# Altium footprint library WA-SMSE.PcbLib: 11 footprints
Each footprint in its own frame and in the unit in brackets; x right, y up, seen from the top. Pads: shape width x height; smd on the part's side, far side on the other; paste and mask are expansions set on the pad; w line width, h text height; cw(c..) or ccw(c..) is an arc to the next point about the centre after c.
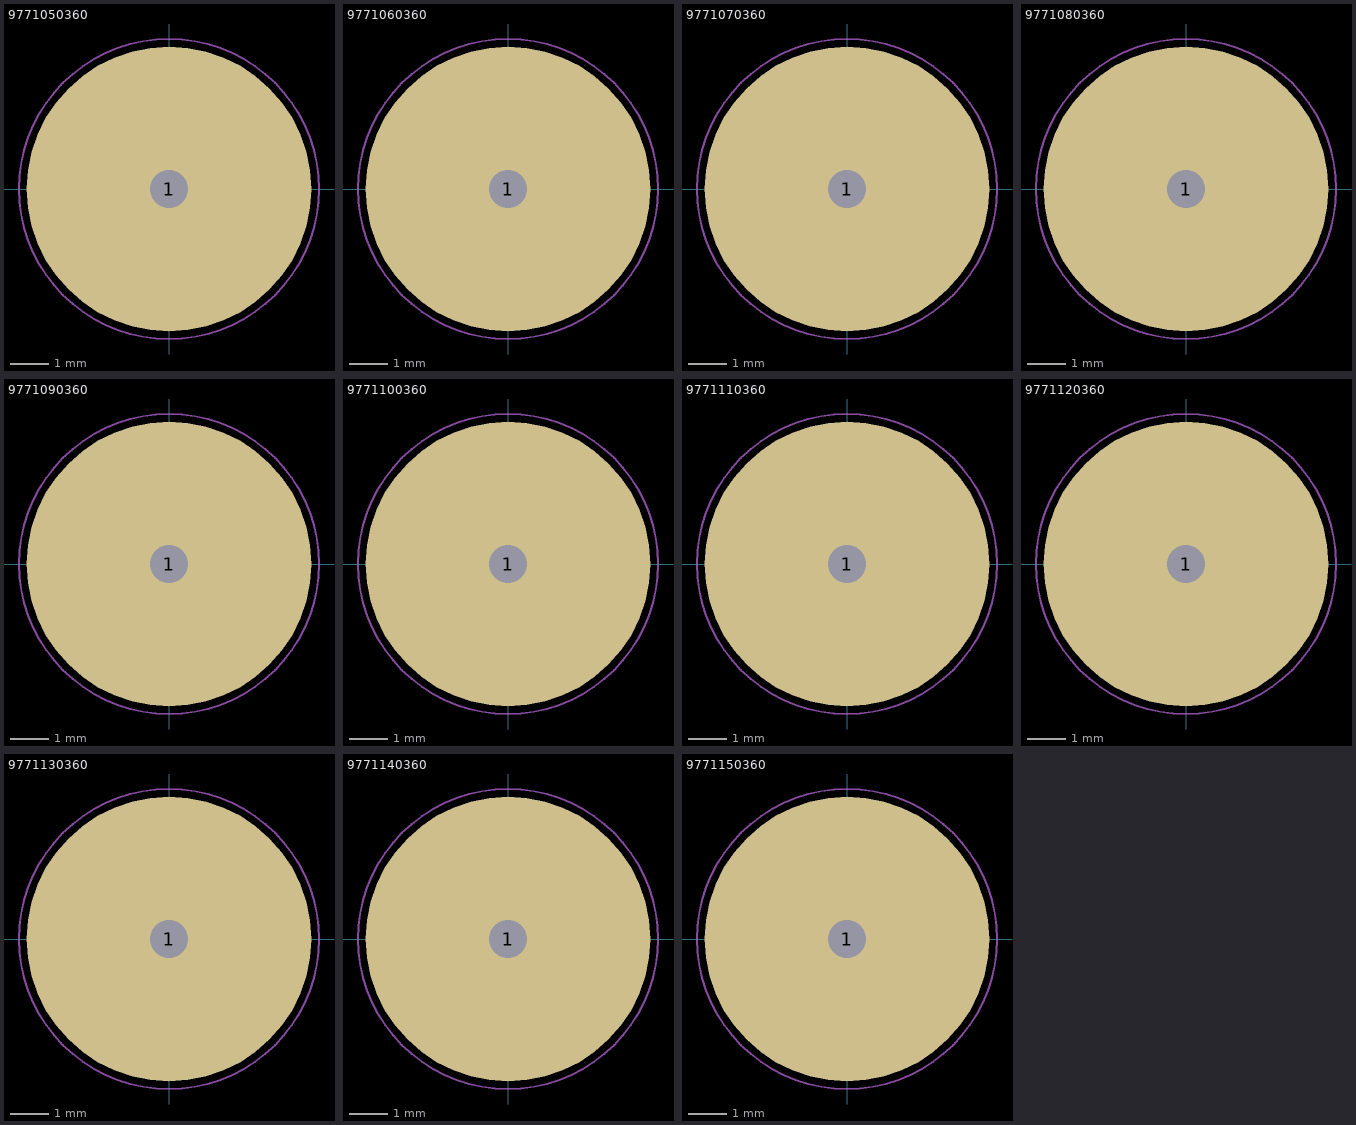
[diagram p0: the footprints below, top view; thin cyan lines are the x and y axes]

## 9771050360 [mm] "SMD Steel Spacer, M3 Thread External, Length 5mm"
height 11
pads (1):
  round 7.4 / inner round 0 / far side round 0 hole 1 unplated paste-403.566: 1(0,0)
Top Paste:
  region: 0.53,-3.561 0.784,-3.523 1.276,-3.376 1.741,-3.161 2.172,-2.882 2.559,-2.545 2.894,-2.156 3.171,-1.724 3.383,-1.257 3.527,-0.765 3.6,-0.257 3.6,0.257 3.527,0.765 3.383,1.257 3.171,1.724 2.894,2.156 2.559,2.545 2.172,2.882 1.741,3.161 1.276,3.376 0.784,3.523 0.53,3.561 0.53,0.377 0.53,0.376 0.581,0.29 0.642,0.1 0.642,-0.1 0.581,-0.29 0.53,-0.376 0.53,-0.377
  region: -0.53,-3.561 -0.784,-3.523 -1.276,-3.376 -1.741,-3.161 -2.172,-2.882 -2.559,-2.545 -2.894,-2.156 -3.171,-1.724 -3.383,-1.257 -3.527,-0.765 -3.6,-0.257 -3.6,0.257 -3.527,0.765 -3.383,1.257 -3.171,1.724 -2.894,2.156 -2.559,2.545 -2.172,2.882 -1.741,3.161 -1.276,3.376 -0.784,3.523 -0.53,3.561 -0.53,0.377 -0.53,0.376 -0.581,0.29 -0.642,0.1 -0.642,-0.1 -0.581,-0.29 -0.53,-0.376 -0.53,-0.377
Top Designator:
  text ".Designator" at -7.498,-0.5 h1.5
Top Component Outline:
  circle w0.1: c0,0 r3
Top 3D Body:
  circle w0.1: c0,0 r3
Top Courtyard:
  circle w0.05: c0,0 r3.9
  lines w0.05: -0.5,0 0.5,0 ; 0,-0.5 0,0.5
3D body "9771050360.stp": height 11, standoff -0.5, extent -3,-3 3,3

## 9771060360 [mm] "SMD Steel Spacer, M3 Thread External, Length 6mm"
height 12
pads (1):
  round 7.4 / inner round 0 / far side round 0 hole 1 unplated paste-403.566: 1(0,0)
Top Paste:
  region: -0.53,-3.561 -0.784,-3.523 -1.276,-3.376 -1.741,-3.161 -2.172,-2.882 -2.559,-2.545 -2.894,-2.156 -3.171,-1.724 -3.383,-1.257 -3.527,-0.765 -3.6,-0.257 -3.6,0.257 -3.527,0.765 -3.383,1.257 -3.171,1.724 -2.894,2.156 -2.559,2.545 -2.172,2.882 -1.741,3.161 -1.276,3.376 -0.784,3.523 -0.53,3.561 -0.53,0.377 -0.53,0.376 -0.581,0.29 -0.642,0.1 -0.642,-0.1 -0.581,-0.29 -0.53,-0.376 -0.53,-0.377
  region: 0.53,-3.561 0.784,-3.523 1.276,-3.376 1.741,-3.161 2.172,-2.882 2.559,-2.545 2.894,-2.156 3.171,-1.724 3.383,-1.257 3.527,-0.765 3.6,-0.257 3.6,0.257 3.527,0.765 3.383,1.257 3.171,1.724 2.894,2.156 2.559,2.545 2.172,2.882 1.741,3.161 1.276,3.376 0.784,3.523 0.53,3.561 0.53,0.377 0.53,0.376 0.581,0.29 0.642,0.1 0.642,-0.1 0.581,-0.29 0.53,-0.376 0.53,-0.377
Top Designator:
  text ".Designator" at -7.498,-0.5 h1.5
Top Component Outline:
  circle w0.1: c0,0 r3
Top 3D Body:
  circle w0.1: c0,0 r3
Top Courtyard:
  circle w0.05: c0,0 r3.9
  lines w0.05: -0.5,0 0.5,0 ; 0,-0.5 0,0.5
3D body "9771060360.stp": height 12, standoff -0.5, extent -3,-3 3,3

## 9771070360 [mm] "SMD Steel Spacer, M3 Thread External, Length 7mm"
height 13
pads (1):
  round 7.4 / inner round 0 / far side round 0 hole 1 unplated paste-403.566: 1(0,0)
Top Paste:
  region: -0.53,-3.561 -0.784,-3.523 -1.276,-3.376 -1.741,-3.161 -2.172,-2.882 -2.559,-2.545 -2.894,-2.156 -3.171,-1.724 -3.383,-1.257 -3.527,-0.765 -3.6,-0.257 -3.6,0.257 -3.527,0.765 -3.383,1.257 -3.171,1.724 -2.894,2.156 -2.559,2.545 -2.172,2.882 -1.741,3.161 -1.276,3.376 -0.784,3.523 -0.53,3.561 -0.53,0.377 -0.53,0.376 -0.581,0.29 -0.642,0.1 -0.642,-0.1 -0.581,-0.29 -0.53,-0.376 -0.53,-0.377
  region: 0.53,-3.561 0.784,-3.523 1.276,-3.376 1.741,-3.161 2.172,-2.882 2.559,-2.545 2.894,-2.156 3.171,-1.724 3.383,-1.257 3.527,-0.765 3.6,-0.257 3.6,0.257 3.527,0.765 3.383,1.257 3.171,1.724 2.894,2.156 2.559,2.545 2.172,2.882 1.741,3.161 1.276,3.376 0.784,3.523 0.53,3.561 0.53,0.377 0.53,0.376 0.581,0.29 0.642,0.1 0.642,-0.1 0.581,-0.29 0.53,-0.376 0.53,-0.377
Top Designator:
  text ".Designator" at -7.498,-0.5 h1.5
Top Component Outline:
  circle w0.1: c0,0 r3
Top 3D Body:
  circle w0.1: c0,0 r3
Top Courtyard:
  circle w0.05: c0,0 r3.9
  lines w0.05: -0.5,0 0.5,0 ; 0,-0.5 0,0.5
3D body "9771070360.stp": height 13, standoff -0.5, extent -3,-3 3,3

## 9771080360 [mm] "SMD Steel Spacer, M3 Thread External, Length 8mm"
height 14
pads (1):
  round 7.4 / inner round 0 / far side round 0 hole 1 unplated paste-403.566: 1(0,0)
Top Paste:
  region: 0.53,-3.561 0.784,-3.523 1.276,-3.376 1.741,-3.161 2.172,-2.882 2.559,-2.545 2.894,-2.156 3.171,-1.724 3.383,-1.257 3.527,-0.765 3.6,-0.257 3.6,0.257 3.527,0.765 3.383,1.257 3.171,1.724 2.894,2.156 2.559,2.545 2.172,2.882 1.741,3.161 1.276,3.376 0.784,3.523 0.53,3.561 0.53,0.377 0.53,0.376 0.581,0.29 0.642,0.1 0.642,-0.1 0.581,-0.29 0.53,-0.376 0.53,-0.377
  region: -0.53,-3.561 -0.784,-3.523 -1.276,-3.376 -1.741,-3.161 -2.172,-2.882 -2.559,-2.545 -2.894,-2.156 -3.171,-1.724 -3.383,-1.257 -3.527,-0.765 -3.6,-0.257 -3.6,0.257 -3.527,0.765 -3.383,1.257 -3.171,1.724 -2.894,2.156 -2.559,2.545 -2.172,2.882 -1.741,3.161 -1.276,3.376 -0.784,3.523 -0.53,3.561 -0.53,0.377 -0.53,0.376 -0.581,0.29 -0.642,0.1 -0.642,-0.1 -0.581,-0.29 -0.53,-0.376 -0.53,-0.377
Top Designator:
  text ".Designator" at -7.498,-0.5 h1.5
Top Component Outline:
  circle w0.1: c0,0 r3
Top 3D Body:
  circle w0.1: c0,0 r3
Top Courtyard:
  circle w0.05: c0,0 r3.9
  lines w0.05: -0.5,0 0.5,0 ; 0,-0.5 0,0.5
3D body "9771080360.stp": height 14, standoff -0.5, extent -3,-3 3,3

## 9771090360 [mm] "SMD Steel Spacer, M3 Thread External, Length 9mm"
height 15
pads (1):
  round 7.4 / inner round 0 / far side round 0 hole 1 unplated paste-403.566: 1(0,0)
Top Paste:
  region: 0.53,-3.561 0.784,-3.523 1.276,-3.376 1.741,-3.161 2.172,-2.882 2.559,-2.545 2.894,-2.156 3.171,-1.724 3.383,-1.257 3.527,-0.765 3.6,-0.257 3.6,0.257 3.527,0.765 3.383,1.257 3.171,1.724 2.894,2.156 2.559,2.545 2.172,2.882 1.741,3.161 1.276,3.376 0.784,3.523 0.53,3.561 0.53,0.377 0.53,0.376 0.581,0.29 0.642,0.1 0.642,-0.1 0.581,-0.29 0.53,-0.376 0.53,-0.377
  region: -0.53,-3.561 -0.784,-3.523 -1.276,-3.376 -1.741,-3.161 -2.172,-2.882 -2.559,-2.545 -2.894,-2.156 -3.171,-1.724 -3.383,-1.257 -3.527,-0.765 -3.6,-0.257 -3.6,0.257 -3.527,0.765 -3.383,1.257 -3.171,1.724 -2.894,2.156 -2.559,2.545 -2.172,2.882 -1.741,3.161 -1.276,3.376 -0.784,3.523 -0.53,3.561 -0.53,0.377 -0.53,0.376 -0.581,0.29 -0.642,0.1 -0.642,-0.1 -0.581,-0.29 -0.53,-0.376 -0.53,-0.377
Top Designator:
  text ".Designator" at -7.498,-0.5 h1.5
Top Component Outline:
  circle w0.1: c0,0 r3
Top 3D Body:
  circle w0.1: c0,0 r3
Top Courtyard:
  circle w0.05: c0,0 r3.9
  lines w0.05: -0.5,0 0.5,0 ; 0,-0.5 0,0.5
3D body "9771090360.stp": height 15, standoff -0.5, extent -3,-3 3,3

## 9771100360 [mm] "SMD Steel Spacer, M3 Thread External, Length 10mm"
height 16
pads (1):
  round 7.4 / inner round 0 / far side round 0 hole 1 unplated paste-403.566: 1(0,0)
Top Paste:
  region: -0.53,-3.561 -0.784,-3.523 -1.276,-3.376 -1.741,-3.161 -2.172,-2.882 -2.559,-2.545 -2.894,-2.156 -3.171,-1.724 -3.383,-1.257 -3.527,-0.765 -3.6,-0.257 -3.6,0.257 -3.527,0.765 -3.383,1.257 -3.171,1.724 -2.894,2.156 -2.559,2.545 -2.172,2.882 -1.741,3.161 -1.276,3.376 -0.784,3.523 -0.53,3.561 -0.53,0.377 -0.53,0.376 -0.581,0.29 -0.642,0.1 -0.642,-0.1 -0.581,-0.29 -0.53,-0.376 -0.53,-0.377
  region: 0.53,-3.561 0.784,-3.523 1.276,-3.376 1.741,-3.161 2.172,-2.882 2.559,-2.545 2.894,-2.156 3.171,-1.724 3.383,-1.257 3.527,-0.765 3.6,-0.257 3.6,0.257 3.527,0.765 3.383,1.257 3.171,1.724 2.894,2.156 2.559,2.545 2.172,2.882 1.741,3.161 1.276,3.376 0.784,3.523 0.53,3.561 0.53,0.377 0.53,0.376 0.581,0.29 0.642,0.1 0.642,-0.1 0.581,-0.29 0.53,-0.376 0.53,-0.377
Top Designator:
  text ".Designator" at -7.498,-0.5 h1.5
Top Component Outline:
  circle w0.1: c0,0 r3
Top 3D Body:
  circle w0.1: c0,0 r3
Top Courtyard:
  circle w0.05: c0,0 r3.9
  lines w0.05: -0.5,0 0.5,0 ; 0,-0.5 0,0.5
3D body "9771100360.stp": height 16, standoff -0.5, extent -3,-3 3,3

## 9771110360 [mm] "SMD Steel Spacer, M3 Thread External, Length 11mm"
height 17
pads (1):
  round 7.4 / inner round 0 / far side round 0 hole 1 unplated paste-403.566: 1(0,0)
Top Paste:
  region: -0.53,-3.561 -0.784,-3.523 -1.276,-3.376 -1.741,-3.161 -2.172,-2.882 -2.559,-2.545 -2.894,-2.156 -3.171,-1.724 -3.383,-1.257 -3.527,-0.765 -3.6,-0.257 -3.6,0.257 -3.527,0.765 -3.383,1.257 -3.171,1.724 -2.894,2.156 -2.559,2.545 -2.172,2.882 -1.741,3.161 -1.276,3.376 -0.784,3.523 -0.53,3.561 -0.53,0.377 -0.53,0.376 -0.581,0.29 -0.642,0.1 -0.642,-0.1 -0.581,-0.29 -0.53,-0.376 -0.53,-0.377
  region: 0.53,-3.561 0.784,-3.523 1.276,-3.376 1.741,-3.161 2.172,-2.882 2.559,-2.545 2.894,-2.156 3.171,-1.724 3.383,-1.257 3.527,-0.765 3.6,-0.257 3.6,0.257 3.527,0.765 3.383,1.257 3.171,1.724 2.894,2.156 2.559,2.545 2.172,2.882 1.741,3.161 1.276,3.376 0.784,3.523 0.53,3.561 0.53,0.377 0.53,0.376 0.581,0.29 0.642,0.1 0.642,-0.1 0.581,-0.29 0.53,-0.376 0.53,-0.377
Top Designator:
  text ".Designator" at -7.498,-0.5 h1.5
Top Component Outline:
  circle w0.1: c0,0 r3
Top 3D Body:
  circle w0.1: c0,0 r3
Top Courtyard:
  circle w0.05: c0,0 r3.9
  lines w0.05: -0.5,0 0.5,0 ; 0,-0.5 0,0.5
3D body "9771110360.stp": height 17, standoff -0.5, extent -3,-3 3,3

## 9771120360 [mm] "SMD Steel Spacer, M3 Thread External, Length 12mm"
height 18
pads (1):
  round 7.4 / inner round 0 / far side round 0 hole 1 unplated paste-403.566: 1(0,0)
Top Paste:
  region: -0.53,-3.561 -0.784,-3.523 -1.276,-3.376 -1.741,-3.161 -2.172,-2.882 -2.559,-2.545 -2.894,-2.156 -3.171,-1.724 -3.383,-1.257 -3.527,-0.765 -3.6,-0.257 -3.6,0.257 -3.527,0.765 -3.383,1.257 -3.171,1.724 -2.894,2.156 -2.559,2.545 -2.172,2.882 -1.741,3.161 -1.276,3.376 -0.784,3.523 -0.53,3.561 -0.53,0.377 -0.53,0.376 -0.581,0.29 -0.642,0.1 -0.642,-0.1 -0.581,-0.29 -0.53,-0.376 -0.53,-0.377
  region: 0.53,-3.561 0.784,-3.523 1.276,-3.376 1.741,-3.161 2.172,-2.882 2.559,-2.545 2.894,-2.156 3.171,-1.724 3.383,-1.257 3.527,-0.765 3.6,-0.257 3.6,0.257 3.527,0.765 3.383,1.257 3.171,1.724 2.894,2.156 2.559,2.545 2.172,2.882 1.741,3.161 1.276,3.376 0.784,3.523 0.53,3.561 0.53,0.377 0.53,0.376 0.581,0.29 0.642,0.1 0.642,-0.1 0.581,-0.29 0.53,-0.376 0.53,-0.377
Top Designator:
  text ".Designator" at -7.498,-0.5 h1.5
Top Component Outline:
  circle w0.1: c0,0 r3
Top 3D Body:
  circle w0.1: c0,0 r3
Top Courtyard:
  circle w0.05: c0,0 r3.9
  lines w0.05: -0.5,0 0.5,0 ; 0,-0.5 0,0.5
3D body "9771120360.stp": height 18, standoff -0.5, extent -3,-3 3,3

## 9771130360 [mm] "SMD Steel Spacer, M3 Thread External, Length 13mm"
height 19
pads (1):
  round 7.4 / inner round 0 / far side round 0 hole 1 unplated paste-403.566: 1(0,0)
Top Paste:
  region: -0.53,-3.561 -0.784,-3.523 -1.276,-3.376 -1.741,-3.161 -2.172,-2.882 -2.559,-2.545 -2.894,-2.156 -3.171,-1.724 -3.383,-1.257 -3.527,-0.765 -3.6,-0.257 -3.6,0.257 -3.527,0.765 -3.383,1.257 -3.171,1.724 -2.894,2.156 -2.559,2.545 -2.172,2.882 -1.741,3.161 -1.276,3.376 -0.784,3.523 -0.53,3.561 -0.53,0.377 -0.53,0.376 -0.581,0.29 -0.642,0.1 -0.642,-0.1 -0.581,-0.29 -0.53,-0.376 -0.53,-0.377
  region: 0.53,-3.561 0.784,-3.523 1.276,-3.376 1.741,-3.161 2.172,-2.882 2.559,-2.545 2.894,-2.156 3.171,-1.724 3.383,-1.257 3.527,-0.765 3.6,-0.257 3.6,0.257 3.527,0.765 3.383,1.257 3.171,1.724 2.894,2.156 2.559,2.545 2.172,2.882 1.741,3.161 1.276,3.376 0.784,3.523 0.53,3.561 0.53,0.377 0.53,0.376 0.581,0.29 0.642,0.1 0.642,-0.1 0.581,-0.29 0.53,-0.376 0.53,-0.377
Top Designator:
  text ".Designator" at -7.498,-0.5 h1.5
Top Component Outline:
  circle w0.1: c0,0 r3
Top 3D Body:
  circle w0.1: c0,0 r3
Top Courtyard:
  circle w0.05: c0,0 r3.9
  lines w0.05: -0.5,0 0.5,0 ; 0,-0.5 0,0.5
3D body "9771130360.stp": height 19, standoff -0.5, extent -3,-3 3,3

## 9771140360 [mm] "SMD Steel Spacer, M3 Thread External, Length 14mm"
height 20
pads (1):
  round 7.4 / inner round 0 / far side round 0 hole 1 unplated paste-403.566: 1(0,0)
Top Paste:
  region: -0.53,-3.561 -0.784,-3.523 -1.276,-3.376 -1.741,-3.161 -2.172,-2.882 -2.559,-2.545 -2.894,-2.156 -3.171,-1.724 -3.383,-1.257 -3.527,-0.765 -3.6,-0.257 -3.6,0.257 -3.527,0.765 -3.383,1.257 -3.171,1.724 -2.894,2.156 -2.559,2.545 -2.172,2.882 -1.741,3.161 -1.276,3.376 -0.784,3.523 -0.53,3.561 -0.53,0.377 -0.53,0.376 -0.581,0.29 -0.642,0.1 -0.642,-0.1 -0.581,-0.29 -0.53,-0.376 -0.53,-0.377
  region: 0.53,-3.561 0.784,-3.523 1.276,-3.376 1.741,-3.161 2.172,-2.882 2.559,-2.545 2.894,-2.156 3.171,-1.724 3.383,-1.257 3.527,-0.765 3.6,-0.257 3.6,0.257 3.527,0.765 3.383,1.257 3.171,1.724 2.894,2.156 2.559,2.545 2.172,2.882 1.741,3.161 1.276,3.376 0.784,3.523 0.53,3.561 0.53,0.377 0.53,0.376 0.581,0.29 0.642,0.1 0.642,-0.1 0.581,-0.29 0.53,-0.376 0.53,-0.377
Top Designator:
  text ".Designator" at -7.498,-0.5 h1.5
Top Component Outline:
  circle w0.1: c0,0 r3
Top 3D Body:
  circle w0.1: c0,0 r3
Top Courtyard:
  circle w0.05: c0,0 r3.9
  lines w0.05: -0.5,0 0.5,0 ; 0,-0.5 0,0.5
3D body "9771140360.stp": height 20, standoff -0.5, extent -3,-3 3,3

## 9771150360 [mm] "SMD Steel Spacer, M3 Thread External, Length 15mm"
height 21
pads (1):
  round 7.4 / inner round 0 / far side round 0 hole 1 unplated paste-403.566: 1(0,0)
Top Paste:
  region: -0.53,-3.561 -0.784,-3.523 -1.276,-3.376 -1.741,-3.161 -2.172,-2.882 -2.559,-2.545 -2.894,-2.156 -3.171,-1.724 -3.383,-1.257 -3.527,-0.765 -3.6,-0.257 -3.6,0.257 -3.527,0.765 -3.383,1.257 -3.171,1.724 -2.894,2.156 -2.559,2.545 -2.172,2.882 -1.741,3.161 -1.276,3.376 -0.784,3.523 -0.53,3.561 -0.53,0.377 -0.53,0.376 -0.581,0.29 -0.642,0.1 -0.642,-0.1 -0.581,-0.29 -0.53,-0.376 -0.53,-0.377
  region: 0.53,-3.561 0.784,-3.523 1.276,-3.376 1.741,-3.161 2.172,-2.882 2.559,-2.545 2.894,-2.156 3.171,-1.724 3.383,-1.257 3.527,-0.765 3.6,-0.257 3.6,0.257 3.527,0.765 3.383,1.257 3.171,1.724 2.894,2.156 2.559,2.545 2.172,2.882 1.741,3.161 1.276,3.376 0.784,3.523 0.53,3.561 0.53,0.377 0.53,0.376 0.581,0.29 0.642,0.1 0.642,-0.1 0.581,-0.29 0.53,-0.376 0.53,-0.377
Top Designator:
  text ".Designator" at -7.498,-0.5 h1.5
Top Component Outline:
  circle w0.1: c0,0 r3
Top 3D Body:
  circle w0.1: c0,0 r3
Top Courtyard:
  circle w0.05: c0,0 r3.9
  lines w0.05: -0.5,0 0.5,0 ; 0,-0.5 0,0.5
3D body "9771150360.stp": height 21, standoff -0.5, extent -3,-3 3,3